# Altium footprint library TSW-103-07-F-D.PcbLib: 1 footprints
Each footprint in its own frame and in the unit in brackets; x right, y up, seen from the top. Pads: shape width x height; smd on the part's side, far side on the other; paste and mask are expansions set on the pad; w line width, h text height; cw(c..) or ccw(c..) is an arc to the next point about the centre after c.
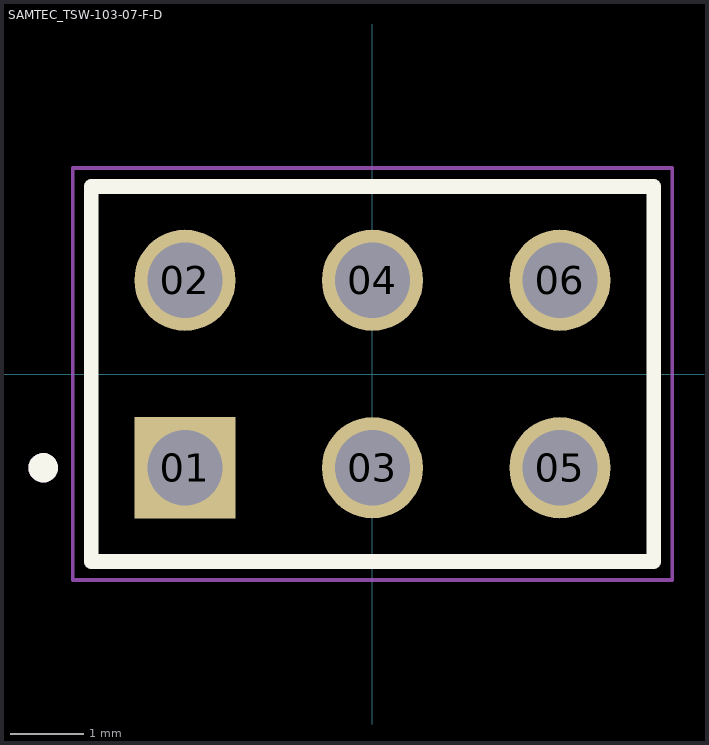
[diagram p0: the footprint, top view; thin cyan lines are the x and y axes]

## SAMTEC_TSW-103-07-F-D [mm]
pads (6):
  rect 1.37x1.37 hole 1.02: 01(-2.54,-1.27)
  round 1.37 hole 1.02: 02(-2.54,1.27) 03(0,-1.27) 04(0,1.27) 05(2.54,-1.27) 06(2.54,1.27)
Top Overlay:
  circle w0.2: c-4.46,-1.27 r0.1
  lines w0.2: -3.81,-2.54 -3.81,2.54 3.81,2.54 3.81,-2.54 -3.81,-2.54
Mechanical 13:
  circle w0.2: c-4.46,-1.27 r0.1
  lines w0.1: -3.81,-2.54 -3.81,2.54 ; -3.81,-2.54 3.81,-2.54 ; -3.81,-2.54 -3.81,2.54 ; -3.81,2.54 3.81,2.54 ; -3.81,2.54 3.81,2.54 ; 3.81,-2.54 3.81,2.54 ; 3.81,-2.54 3.81,2.54
Mechanical 15:
  lines w0.05: -4.06,-2.79 -4.06,2.79 4.06,2.79 4.06,-2.79 -4.06,-2.79